# EAGLE library part CUSTOMLIBS_490107672012 (library sensortag_motherboard_v004)
REDFIT IDC SKEDD Connector WR-WST PROPERTIES: Insulator Material LCP Insulator Flammability Rating UL94 V-0 Insulator Color Black Contact Material CuNiSi Contact Plating Au (SKEDD), Sn (IDC) Cable AWG 28/1.27 mm ribbon cable Operating Temperature -25 °C up to +105 °C Compliance Lead free / RoHS Mating Cycle 10 Mating Cycle 25 PCB Thickness 1.6 mm ELECTRICAL PROPERTIES: Rated Current [1] 1 A Insulation Resistance 1000 MΩ Withstanding Voltage 500 V (AC) Contact Resistance 10 mΩ PACKAGING PROPERTIES: Packaging Tube <http://katalog.we-online.de/media/images/v2/Family_WR-WST_69010767xxxx.jpg> http://katalog.we-online.de/en/em/REDFIT_IDC_SKEDD Created 2017-11-16, Yingchun,Shan 2017 (C) Würth Elektronik
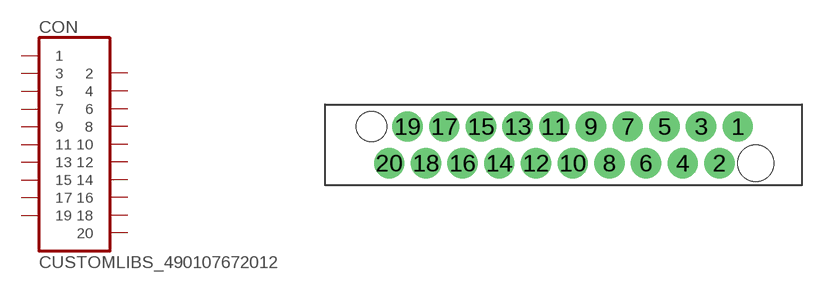
[diagram p4: symbol with the pads of CUSTOMLIBS_490107672012; footprint CUSTOMLIBS_490107672012]

Designator prefix CON

## CUSTOMLIBS_490107672012  [CUSTOMLIBS_490107672012]
1  20  pas
2  19  pas
3  18  pas
4  17  pas
5  16  pas
6  15  pas
7  14  pas
8  13  pas
9  12  pas
10  11  pas
11  10  pas
12  9  pas
13  8  pas
14  7  pas
15  6  pas
16  5  pas
17  4  pas
18  3  pas
19  2  pas
20  1  pas

## Footprint CUSTOMLIBS_490107672012 (pad centres in mm)
WR-WST REDFIT IDC SKEDD Connector Plated through-holes: - Surface: chemical Ni/Au - min. 20µm Cu - final diameter: 1,4mm +0,1/-0,05 Non plated through-holes: - Tolerances: +/- 0,05 Details see product data sheet.
drill 1.4 pad 1.42: 1 12.065,1.27; 2 10.795,-1.27; 3 9.525,1.27; 4 8.255,-1.27; 5 6.985,1.27; 6 5.715,-1.27; 7 4.445,1.27; 8 3.175,-1.27; 9 1.905,1.27; 10 0.635,-1.27; 11 -0.635,1.27; 12 -1.905,-1.27; 13 -3.175,1.27; 14 -4.445,-1.27; 15 -5.715,1.27; 16 -6.985,-1.27; 17 -8.255,1.27; 18 -9.525,-1.27; 19 -10.795,1.27; 20 -12.065,-1.27
hole 2.1 at -13.295,1.27
hole 2.5 at 13.295,-1.27